# Altium footprint library PCB - LEADED - SOP - TI SSOP-24 DB.PCBLIB: 1 footprints
Each footprint in its own frame and in the unit in brackets; x right, y up, seen from the top. Pads: shape width x height; smd on the part's side, far side on the other; paste and mask are expansions set on the pad; w line width, h text height; cw(c..) or ccw(c..) is an arc to the next point about the centre after c.
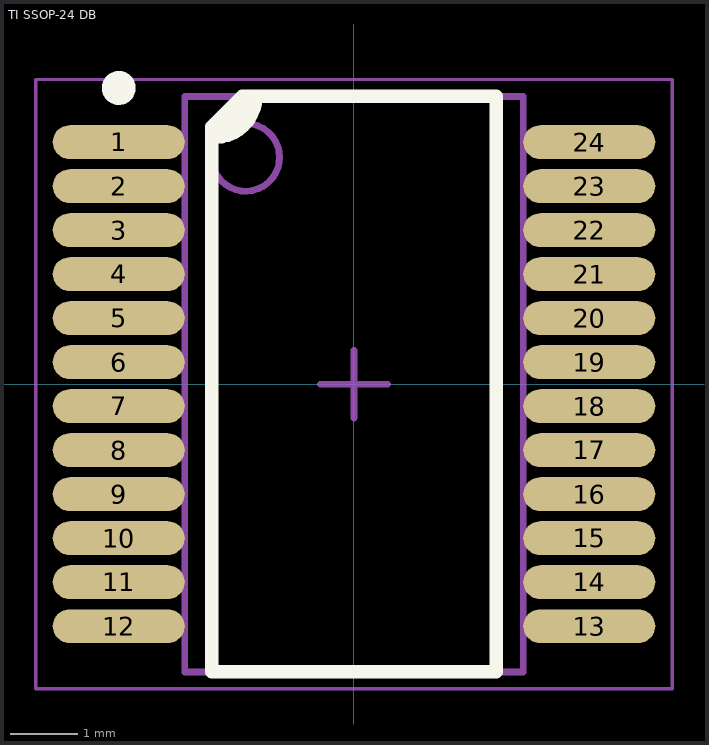
[diagram p0: the footprint, top view; thin cyan lines are the x and y axes]

## TI SSOP-24 DB [mm] "SSOP, 24-Leads, Body 8.20x5.30mm, Pitch 0.65mm, IPC Medium Density"
height 2
pads (24):
  oval 1.95x0.5 smd: 1(-3.475,3.575) 2(-3.475,2.925) 3(-3.475,2.275) 4(-3.475,1.625) 5(-3.475,0.975) 6(-3.475,0.325) 7(-3.475,-0.325) 8(-3.475,-0.975) 9(-3.475,-1.625) 10(-3.475,-2.275) 11(-3.475,-2.925) 12(-3.475,-3.575) 13(3.475,-3.575) 14(3.475,-2.925) 15(3.475,-2.275) 16(3.475,-1.625) 17(3.475,-0.975) 18(3.475,-0.325) 19(3.475,0.325) 20(3.475,0.975) 21(3.475,1.625) 22(3.475,2.275) 23(3.475,2.925) 24(3.475,3.575)
Top Overlay:
  circle w0.25: c-3.475,4.375 r0.125
  region: -2.05,3.65 -1.931,3.65 -1.71,3.741 -1.541,3.91 -1.45,4.131 -1.45,4.25 -1.75,4.25 -2.05,3.95
  lines w0.2: -2.05,3.65 ccw(c-2.05,4.25) -1.45,4.25 ; -2.1,-4.25 -2.1,3.8 -1.65,4.25 2.1,4.25 2.1,-4.25 -2.1,-4.25
Mechanical 13:
  circle w0.1: c-1.6,3.35 r0.5
  lines w0.1: -2.5,-4.25 -2.5,4.25 2.5,4.25 2.5,-4.25 -2.5,-4.25
Mechanical 15:
  lines w0.05: -4.7,-4.5 -4.7,4.5 4.7,4.5 4.7,-4.5 -4.7,-4.5
Mechanical 2 (Mech9):
  lines w0.1: -0.5,0 0.5,0 ; 0,-0.5 0,0.5
3D body "SSOP-24-TI-DB.STEP": height 1.97, standoff 0, extent -3.91,-4.1 3.911,4.1